# EAGLE library part PIN06 (library C8051F300)
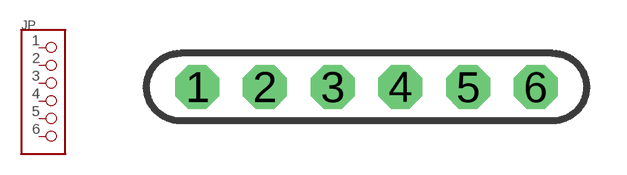
[diagram p25: symbol with the pads of PIN06; footprint PIN06]

Designator prefix JP

## PIN06  [PIN06]
1  1
2  2
3  3
4  4
5  5
6  6

## Footprint PIN06 (pad centres in mm)
drill 1.1 octagon: 1 0,0; 2 2.54,0; 3 5.08,0; 4 7.62,0; 5 10.16,0; 6 12.7,0